# EAGLE library part UA776 (library my_linear)
UA776
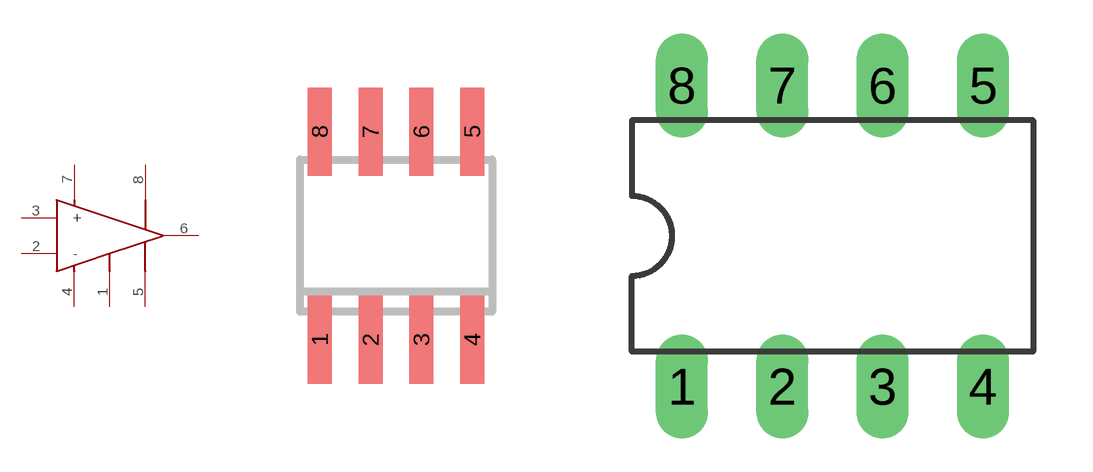
[diagram p0: symbol with the pads of SO08; footprints SO08, DIP8]

Designator prefix -

## UA776  [SO08]
1  P$1
2  -
3  +
4  P$4  pwr
5  P$5
6  P$6  out
7  P$7  pwr
8  P$8

## UA776DIP8  [DIP8]
Pads as for SO08

## Footprint SO08 (pad centres in mm)
smd 0.6 x 2.2: 1 -1.905,-2.6; 2 -0.635,-2.6; 3 0.635,-2.6; 4 1.905,-2.6; 5 1.905,2.6; 6 0.635,2.6; 7 -0.635,2.6; 8 -1.905,2.6

## Footprint DIP8 (pad centres in mm)
dip dip8
drill 0.813 long: 1 -3.81,-3.81; 2 -1.27,-3.81; 3 1.27,-3.81; 4 3.81,-3.81; 5 3.81,3.81; 6 1.27,3.81; 7 -1.27,3.81; 8 -3.81,3.81